# EAGLE library part MICRO-SD (library tmxk)
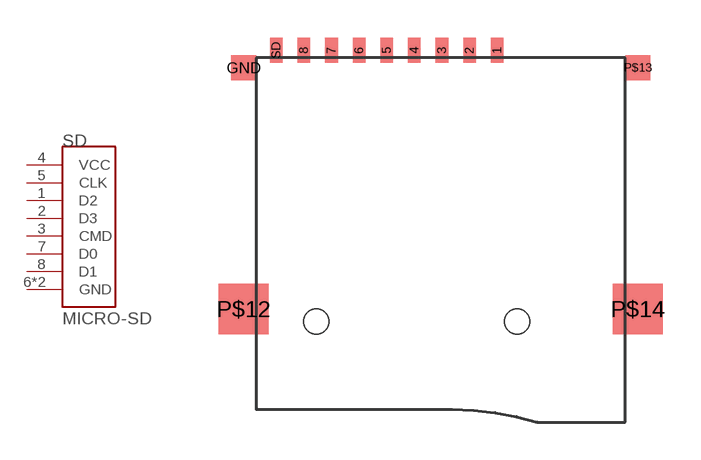
[diagram p28: symbol with the pads of MICRO-SD; footprint MICRO-SD]

Designator prefix SD

## MICRO-SD  [MICRO-SD]
1  D2
2  D3
3  CMD
4  VCC
5  CLK
6  GND
7  D0
8  D1
GND  GND

## Footprint MICRO-SD (pad centres in mm)
smd 0.5 x 1: 1 1.98,7.18; 2 0.88,7.18; 3 -0.22,7.18; 4 -1.32,7.18; 5 -2.42,7.18; 6 -3.52,7.18; 7 -4.62,7.18; 8 -5.72,7.18; SD -6.82,7.18
smd 1 x 1: GND -8.12,6.48; P$13 7.58,6.48
smd 2 x 2: P$12 -8.12,-3.12; P$14 7.58,-3.12
hole 1 at -5.22,-3.62
hole 1 at 2.78,-3.62